# EAGLE library part К561ИЕ8 (library yri)
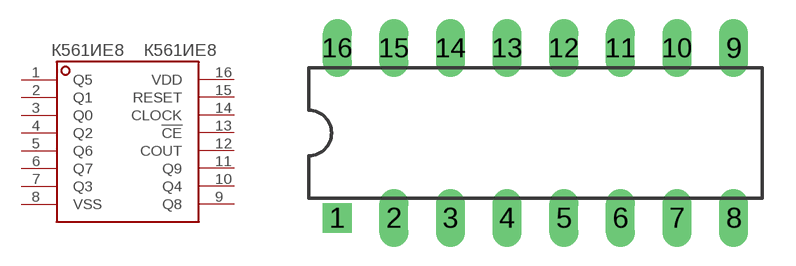
[diagram p2: symbol with the pads of DIL16; footprint DIL16]

Designator prefix U

## К561ИЕ8  [DIL16]
1  Q5
2  Q1
3  Q0
4  Q2
5  Q6
6  Q7
7  Q3
8  VSS
9  Q8
10  Q4
11  Q9
12  COUT
13  !CE
14  CLOCK
15  RESET
16  VDD

## Footprint DIL16 (pad centres in mm)
Dual In Line Package
drill 0.8 square: 1 -8.89,-3.81
drill 0.8 long: 2 -6.35,-3.81; 3 -3.81,-3.81; 4 -1.27,-3.81; 5 1.27,-3.81; 6 3.81,-3.81; 7 6.35,-3.81; 8 8.89,-3.81; 9 8.89,3.81; 10 6.35,3.81; 11 3.81,3.81; 12 1.27,3.81; 13 -1.27,3.81; 14 -3.81,3.81; 15 -6.35,3.81; 16 -8.89,3.81